# Altium footprint library LTC7060EMSEWPBF.PcbLib: 3 footprints
Each footprint in its own frame and in the unit in brackets; x right, y up, seen from the top. Pads: shape width x height; smd on the part's side, far side on the other; paste and mask are expansions set on the pad; w line width, h text height; cw(c..) or ccw(c..) is an arc to the next point about the centre after c.
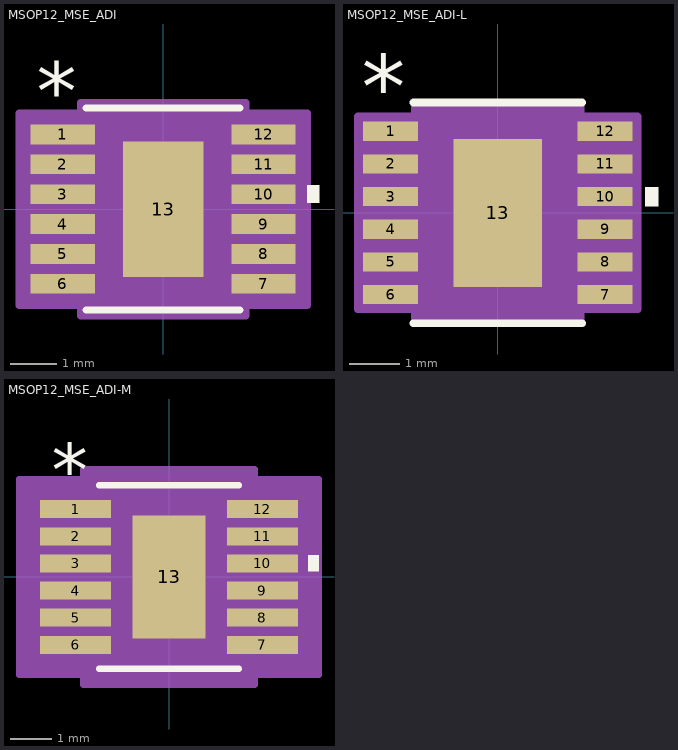
[diagram p0: the footprints below, top view; thin cyan lines are the x and y axes]

## MSOP12_MSE_ADI [mil]
pads (13):
  rect 55x17 smd paste+0 mask+0: 1(-86,63.98) 2(-86,38.39) 3(-86,12.8) 4(-86,-12.8) 5(-86,-38.39) 6(-86,-63.98) 7(86,-63.98) 8(86,-38.39) 9(86,-12.8) 10(86,12.8) 11(86,38.39) 12(86,63.98)
  rect 69x116 smd paste-57.5 mask+0: 13(0,0)
Top Overlay:
  region: 123.5,20.3 133.5,20.3 133.5,5.3 123.5,5.3
  lines w6: -66,-86.5 66,-86.5 ; -66,86.5 66,86.5
  text "*" at -108.5,75.98 h50
  text ".Designator" at -137.5,-25 h50
Top Paste:
  region: 30.56,-3.94 -30.56,-3.94 -30.56,-54.06 30.56,-54.06
  region: 30.56,54.06 -30.56,54.06 -30.56,3.94 30.56,3.94
Mechanical 13:
  lines w1: -12,81.5 ccw(c0,81.5) 12,81.5 ; -99.5,-71.48 -61,-71.48 -61,-56.48 -99.5,-56.48 -99.5,-71.48 ; -99.5,-45.89 -61,-45.89 -61,-30.89 -99.5,-30.89 -99.5,-45.89 ; -99.5,-20.3 -61,-20.3 -61,-5.3 -99.5,-5.3 -99.5,-20.3 ; -99.5,5.3 -61,5.3 -61,20.3 -99.5,20.3 -99.5,5.3 ; -99.5,30.89 -61,30.89 -61,45.89 -99.5,45.89 -99.5,30.89 ; -99.5,56.48 -61,56.48 -61,71.48 -99.5,71.48 -99.5,56.48 ; -61,-81.5 -61,81.5 61,81.5 61,-81.5 -61,-81.5 ; 61,-71.48 99.5,-71.48 99.5,-56.48 61,-56.48 61,-71.48 ; 61,-45.89 99.5,-45.89 99.5,-30.89 61,-30.89 61,-45.89 ; 61,-20.3 99.5,-20.3 99.5,-5.3 61,-5.3 61,-20.3 ; 61,5.3 99.5,5.3 99.5,20.3 61,20.3 61,5.3 ; 61,30.89 99.5,30.89 99.5,45.89 61,45.89 61,30.89 ; 61,56.48 99.5,56.48 99.5,71.48 61,71.48 61,56.48
  text ".Designator" at -137.5,-25 h50
  text "*" at -58.5,28.5 h50
Mechanical 15:
  region: -71,-82.48 -123.5,-82.48 -123.5,82.48 -71,82.48 -71,91.5 71,91.5 71,82.48 123.5,82.48 123.5,-82.48 71,-82.48 71,-91.5 -71,-91.5
  lines w6: -123.5,-82.48 -71,-82.48 -71,-91.5 71,-91.5 71,-82.48 123.5,-82.48 123.5,82.48 71,82.48 71,91.5 -71,91.5 -71,82.48 -123.5,82.48 -123.5,-82.48
3D body "MSOP12_MSE_ADI.step": height 43.11, standoff 0, extent -99.49,-81.5 99.49,81.5

## MSOP12_MSE_ADI-L [mil]
pads (13):
  rect 43x15 smd paste+0 mask+0: 1(-84,63.98) 2(-84,38.39) 3(-84,12.8) 4(-84,-12.8) 5(-84,-38.39) 6(-84,-63.98) 7(84,-63.98) 8(84,-38.39) 9(84,-12.8) 10(84,12.8) 11(84,38.39) 12(84,63.98)
  rect 69x116 smd paste-57.5 mask+0: 13(0,0)
Top Overlay:
  region: 115.5,20.3 125.5,20.3 125.5,5.3 115.5,5.3
  lines w6: -66,-86.5 66,-86.5 ; -66,86.5 66,86.5
  text ".Designator" at -137.5,-25 h50
  text "*" at -106.5,73.98 h50
Top Paste:
  region: 30.56,54.06 -30.56,54.06 -30.56,3.94 30.56,3.94
  region: 30.56,-3.94 -30.56,-3.94 -30.56,-54.06 30.56,-54.06
Mechanical 13:
  lines w1: -12,81.5 ccw(c0,81.5) 12,81.5 ; -99.5,-71.48 -99.5,-56.48 -61,-56.48 -61,-71.48 -99.5,-71.48 ; -99.5,-45.89 -99.5,-30.89 -61,-30.89 -61,-45.89 -99.5,-45.89 ; -99.5,-20.3 -99.5,-5.3 -61,-5.3 -61,-20.3 -99.5,-20.3 ; -99.5,5.3 -99.5,20.3 -61,20.3 -61,5.3 -99.5,5.3 ; -99.5,30.89 -99.5,45.89 -61,45.89 -61,30.89 -99.5,30.89 ; -99.5,56.48 -99.5,71.48 -61,71.48 -61,56.48 -99.5,56.48 ; -61,-81.5 61,-81.5 61,81.5 -61,81.5 -61,-81.5 ; 61,-71.48 61,-56.48 99.5,-56.48 99.5,-71.48 61,-71.48 ; 61,-45.89 61,-30.89 99.5,-30.89 99.5,-45.89 61,-45.89 ; 61,-20.3 61,-5.3 99.5,-5.3 99.5,-20.3 61,-20.3 ; 61,5.3 61,20.3 99.5,20.3 99.5,5.3 61,5.3 ; 61,30.89 61,45.89 99.5,45.89 99.5,30.89 61,30.89 ; 61,56.48 61,71.48 99.5,71.48 99.5,56.48 61,56.48
  text "*" at -58.5,28.5 h50
  text ".Designator" at -137.5,-25 h50
Mechanical 15:
  region: -65,-75.48 -109.5,-75.48 -109.5,75.48 -65,75.48 -65,85.5 65,85.5 65,75.48 109.5,75.48 109.5,-75.48 65,-75.48 65,-85.5 -65,-85.5
  lines w6: -109.5,-75.48 -109.5,75.48 -65,75.48 -65,85.5 65,85.5 65,75.48 109.5,75.48 109.5,-75.48 65,-75.48 65,-85.5 -65,-85.5 -65,-75.48 -109.5,-75.48
3D body "MSOP12_MSE_ADI.step": height 43.11, standoff 0, extent -99.49,-81.5 99.49,81.5

## MSOP12_MSE_ADI-M [mil]
pads (13):
  rect 67x17 smd paste+0 mask+0: 1(-88,63.98) 2(-88,38.39) 3(-88,12.8) 4(-88,-12.8) 5(-88,-38.39) 6(-88,-63.98) 7(88,-63.98) 8(88,-38.39) 9(88,-12.8) 10(88,12.8) 11(88,38.39) 12(88,63.98)
  rect 69x116 smd paste-57.5 mask+0: 13(0,0)
Top Overlay:
  region: 131.5,20.3 141.5,20.3 141.5,5.3 131.5,5.3
  lines w6: -66,-86.5 66,-86.5 ; -66,86.5 66,86.5
  text ".Designator" at -137.5,-25 h50
  text "*" at -110.5,75.98 h50
Top Paste:
  region: 30.56,54.06 -30.56,54.06 -30.56,3.94 30.56,3.94
  region: 30.56,-3.94 -30.56,-3.94 -30.56,-54.06 30.56,-54.06
Mechanical 13:
  lines w1: -12,81.5 ccw(c0,81.5) 12,81.5 ; -99.5,-71.48 -99.5,-56.48 -61,-56.48 -61,-71.48 -99.5,-71.48 ; -99.5,-45.89 -99.5,-30.89 -61,-30.89 -61,-45.89 -99.5,-45.89 ; -99.5,-20.3 -99.5,-5.3 -61,-5.3 -61,-20.3 -99.5,-20.3 ; -99.5,5.3 -99.5,20.3 -61,20.3 -61,5.3 -99.5,5.3 ; -99.5,30.89 -99.5,45.89 -61,45.89 -61,30.89 -99.5,30.89 ; -99.5,56.48 -99.5,71.48 -61,71.48 -61,56.48 -99.5,56.48 ; -61,-81.5 61,-81.5 61,81.5 -61,81.5 -61,-81.5 ; 61,-71.48 61,-56.48 99.5,-56.48 99.5,-71.48 61,-71.48 ; 61,-45.89 61,-30.89 99.5,-30.89 99.5,-45.89 61,-45.89 ; 61,-20.3 61,-5.3 99.5,-5.3 99.5,-20.3 61,-20.3 ; 61,5.3 61,20.3 99.5,20.3 99.5,5.3 61,5.3 ; 61,30.89 61,45.89 99.5,45.89 99.5,30.89 61,30.89 ; 61,56.48 61,71.48 99.5,71.48 99.5,56.48 61,56.48
  text "*" at -58.5,28.5 h50
  text ".Designator" at -137.5,-25 h50
Mechanical 15:
  region: -81,-92.48 -141.5,-92.48 -141.5,92.48 -81,92.48 -81,101.5 81,101.5 81,92.48 141.5,92.48 141.5,-92.48 81,-92.48 81,-101.5 -81,-101.5
  lines w6: -141.5,-92.48 -141.5,92.48 -81,92.48 -81,101.5 81,101.5 81,92.48 141.5,92.48 141.5,-92.48 81,-92.48 81,-101.5 -81,-101.5 -81,-92.48 -141.5,-92.48
3D body "MSOP12_MSE_ADI.step": height 43.11, standoff 0, extent -99.49,-81.5 99.49,81.5